# EAGLE library part CMPFLASH_CON (library xess)
Compact Flash connector.
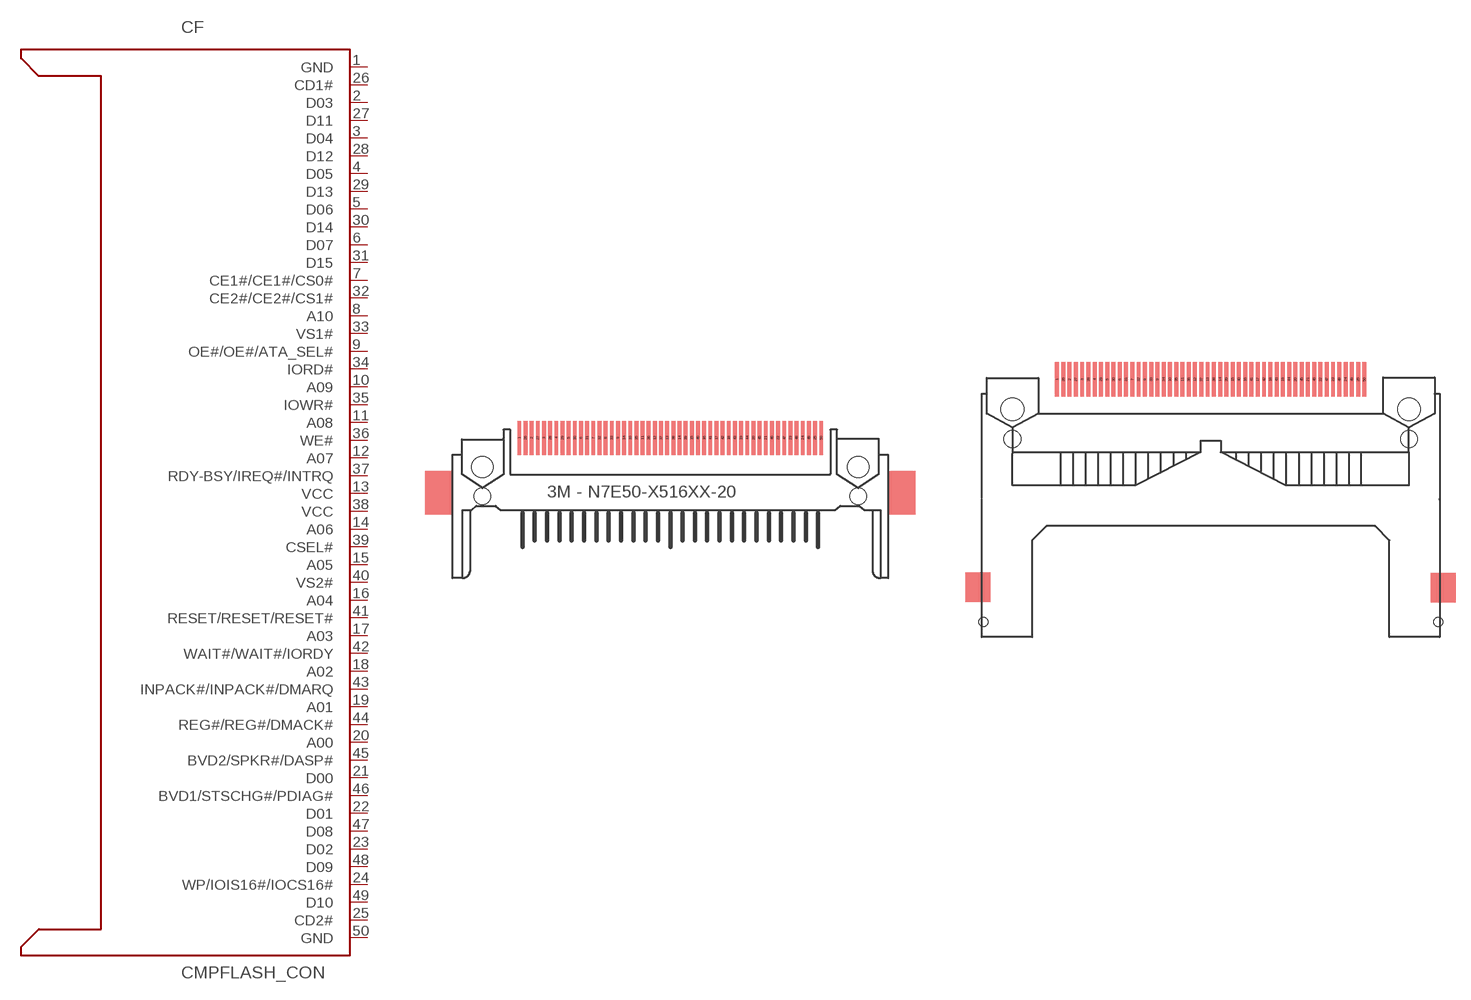
[diagram p33: symbol with the pads of N7E50-X516XX-20; footprints N7E50-X516XX-20, CN067P-3100-001]

Designator prefix CF

## CMPFLASH_CONN7E50-X516XX-20  [N7E50-X516XX-20]
1  GND  pwr
2  D03
3  D04
4  D05
5  D06
6  D07
7  CE1#/CE1#/CS0#  in
8  A10  in
9  OE#/OE#/ATA_SEL#  in
10  A09  in
11  A08  in
12  A07  in
13  VCC  pwr
14  A06  in
15  A05  in
16  A04  in
17  A03  in
18  A02  in
19  A01  in
20  A00  in
21  D00
22  D01
23  D02
24  WP/IOIS16#/IOCS16#  out
25  CD2#  out
26  CD1#  out
27  D11
28  D12
29  D13
30  D14
31  D15
32  CE2#/CE2#/CS1#  in
33  VS1#  out
34  IORD#  in
35  IOWR#  in
36  WE#  in
37  RDY-BSY/IREQ#/INTRQ  out
38  VCC  pwr
39  CSEL#  in
40  VS2#  out
41  RESET/RESET/RESET#  in
42  WAIT#/WAIT#/IORDY  out
43  INPACK#/INPACK#/DMARQ  out
44  REG#/REG#/DMACK#  in
45  BVD2/SPKR#/DASP#
46  BVD1/STSCHG#/PDIAG#
47  D08
48  D09
49  D10
50  GND  pwr

## CMPFLASH_CONCN067P-3100-001  [CN067P-3100-001]
Pads as for N7E50-X516XX-20

## CMPFLASH_CONN7E50-Q516XX-40  [N7E50-Q516XX-40]
Pads as for N7E50-X516XX-20

## CMPFLASH_CONN7E50-R516XX-50  [N7E50-R516XX-50]
Pads as for N7E50-X516XX-20

## Footprint N7E50-X516XX-20 (pad centres in mm)
smd 0.4 x 3.5: 1 -15.557,11.095; 2 -14.287,11.095; 3 -13.018,11.095; 4 -11.748,11.095; 5 -10.477,11.095; 6 -9.207,11.095; 7 -7.938,11.095; 8 -6.668,11.095; 9 -5.397,11.095; 10 -4.128,11.095; 11 -2.857,11.095; 12 -1.587,11.095; 13 -0.318,11.095; 14 0.953,11.095; 15 2.223,11.095; 16 3.493,11.095; 17 4.763,11.095; 18 6.032,11.095; 19 7.303,11.095; 20 8.572,11.095; 21 9.842,11.095; 22 11.113,11.095; 23 12.383,11.095; 24 13.652,11.095; 25 14.922,11.095; 26 -14.922,11.095; 27 -13.652,11.095; 28 -12.383,11.095; 29 -11.113,11.095; 30 -9.842,11.095; 31 -8.572,11.095; 32 -7.303,11.095; 33 -6.032,11.095; 34 -4.763,11.095; 35 -3.493,11.095; 36 -2.223,11.095; 37 -0.953,11.095; 38 0.318,11.095; 39 1.587,11.095; 40 2.857,11.095; 41 4.128,11.095; 42 5.397,11.095; 43 6.668,11.095; 44 7.938,11.095; 45 9.207,11.095; 46 10.477,11.095; 47 11.748,11.095; 48 13.018,11.095; 49 14.287,11.095; 50 15.557,11.095
hole 1.7 at -19.37,5.08
hole 1.7 at 19.37,5.08
hole 2.2 at -19.37,8.08
hole 2.2 at 19.37,8.08

## Footprint CN067P-3100-001 (pad centres in mm)
smd 0.4 x 3.5: 1 -15.557,0.175; 2 -14.287,0.175; 3 -13.018,0.175; 4 -11.748,0.175; 5 -10.477,0.175; 6 -9.207,0.175; 7 -7.938,0.175; 8 -6.668,0.175; 9 -5.397,0.175; 10 -4.128,0.175; 11 -2.857,0.175; 12 -1.587,0.175; 13 -0.318,0.175; 14 0.953,0.175; 15 2.223,0.175; 16 3.493,0.175; 17 4.763,0.175; 18 6.032,0.175; 19 7.303,0.175; 20 8.572,0.175; 21 9.842,0.175; 22 11.113,0.175; 23 12.383,0.175; 24 13.652,0.175; 25 14.922,0.175; 26 -14.922,0.175; 27 -13.652,0.175; 28 -12.383,0.175; 29 -11.113,0.175; 30 -9.842,0.175; 31 -8.572,0.175; 32 -7.303,0.175; 33 -6.032,0.175; 34 -4.763,0.175; 35 -3.493,0.175; 36 -2.223,0.175; 37 -0.953,0.175; 38 0.318,0.175; 39 1.587,0.175; 40 2.857,0.175; 41 4.128,0.175; 42 5.397,0.175; 43 6.668,0.175; 44 7.938,0.175; 45 9.207,0.175; 46 10.477,0.175; 47 11.748,0.175; 48 13.018,0.175; 49 14.287,0.175; 50 15.557,0.175
hole 1.7 at -20.08,-5.861
hole 1.7 at 20.08,-5.853
hole 2.3 at -20.08,-2.853
hole 2.3 at 20.072,-2.852
hole 0.9 at -23.023,-24.372
hole 0.9 at 23.023,-24.372

## Footprint N7E50-Q516XX-40 (pad centres in mm)
smd 0.4 x 3.5: 1 -15.557,6.015; 2 -14.287,6.015; 3 -13.018,6.015; 4 -11.748,6.015; 5 -10.477,6.015; 6 -9.207,6.015; 7 -7.938,6.015; 8 -6.668,6.015; 9 -5.397,6.015; 10 -4.128,6.015; 11 -2.857,6.015; 12 -1.587,6.015; 13 -0.318,6.015; 14 0.953,6.015; 15 2.223,6.015; 16 3.493,6.015; 17 4.763,6.015; 18 6.032,6.015; 19 7.303,6.015; 20 8.572,6.015; 21 9.842,6.015; 22 11.113,6.015; 23 12.383,6.015; 24 13.652,6.015; 25 14.922,6.015; 26 -14.922,6.015; 27 -13.652,6.015; 28 -12.383,6.015; 29 -11.113,6.015; 30 -9.842,6.015; 31 -8.572,6.015; 32 -7.303,6.015; 33 -6.032,6.015; 34 -4.763,6.015; 35 -3.493,6.015; 36 -2.223,6.015; 37 -0.953,6.015; 38 0.318,6.015; 39 1.587,6.015; 40 2.857,6.015; 41 4.128,6.015; 42 5.397,6.015; 43 6.668,6.015; 44 7.938,6.015; 45 9.207,6.015; 46 10.477,6.015; 47 11.748,6.015; 48 13.018,6.015; 49 14.287,6.015; 50 15.557,6.015
hole 1.75 at -19.37,0
hole 1.75 at 19.37,0
hole 2.2 at -19.37,3
hole 2.2 at 19.37,3
hole 0.9 at -23,-18.5
hole 0.9 at 23,-18.5

## Footprint N7E50-R516XX-50 (pad centres in mm)
smd 0.4 x 3.5: 1 15.557,6.015; 2 14.287,6.015; 3 13.018,6.015; 4 11.748,6.015; 5 10.477,6.015; 6 9.207,6.015; 7 7.938,6.015; 8 6.668,6.015; 9 5.397,6.015; 10 4.128,6.015; 11 2.857,6.015; 12 1.587,6.015; 13 0.318,6.015; 14 -0.953,6.015; 15 -2.223,6.015; 16 -3.493,6.015; 17 -4.763,6.015; 18 -6.032,6.015; 19 -7.303,6.015; 20 -8.572,6.015; 21 -9.842,6.015; 22 -11.113,6.015; 23 -12.383,6.015; 24 -13.652,6.015; 25 -14.922,6.015; 26 14.922,6.015; 27 13.652,6.015; 28 12.383,6.015; 29 11.113,6.015; 30 9.842,6.015; 31 8.572,6.015; 32 7.303,6.015; 33 6.032,6.015; 34 4.763,6.015; 35 3.493,6.015; 36 2.223,6.015; 37 0.953,6.015; 38 -0.318,6.015; 39 -1.587,6.015; 40 -2.857,6.015; 41 -4.128,6.015; 42 -5.397,6.015; 43 -6.668,6.015; 44 -7.938,6.015; 45 -9.207,6.015; 46 -10.477,6.015; 47 -11.748,6.015; 48 -13.018,6.015; 49 -14.287,6.015; 50 -15.557,6.015
hole 1.75 at -19.37,0
hole 1.75 at 19.37,0
hole 2.2 at -19.37,3
hole 2.2 at 19.37,3
hole 0.9 at -23,-18.5
hole 0.9 at 23,-18.5